# Altium footprint library CUBIC_FC.PcbLib: 16 footprints
Each footprint in its own frame and in the unit in brackets; x right, y up, seen from the top. Pads: shape width x height; smd on the part's side, far side on the other; paste and mask are expansions set on the pad; w line width, h text height; cw(c..) or ccw(c..) is an arc to the next point about the centre after c.
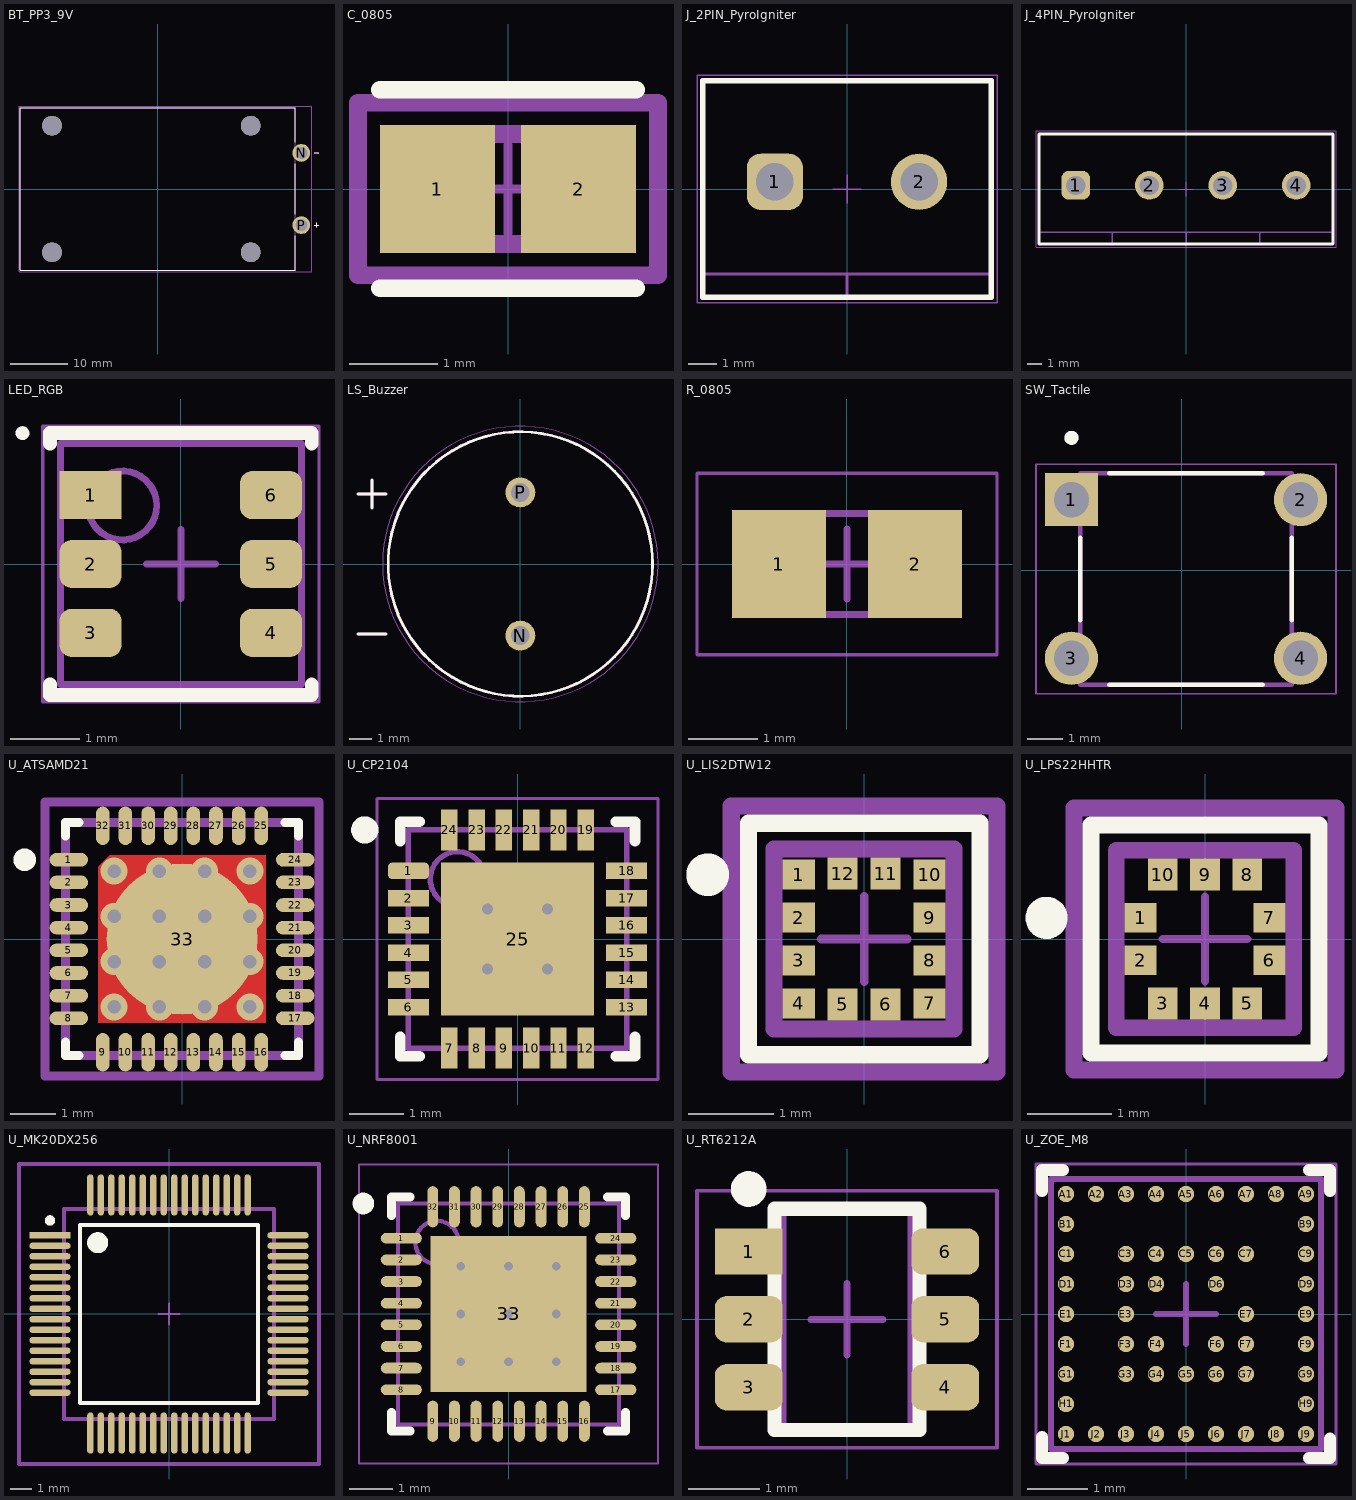
[diagram p0: the footprints below, top view; thin cyan lines are the x and y axes]

## BT_PP3_9V [mm]
height 18.23
pads (6):
  round 3.126 hole 2.11: N(25.23,6.35) P(25.23,-6.35)
  round 3.45 hole 3.45 unplated: ""(-18.59,-11.115) ""(-18.59,11.115) ""(16.34,-11.115) ""(16.34,11.115)
Top Overlay:
  lines w0.127: 24.13,-8.233 24.13,-14.29 -24.13,-14.29 -24.13,14.29 24.13,14.29 24.13,8.233 ; 24.13,-4.467 24.13,4.467 ; 27.54,-6.35 28.34,-6.35 ; 27.54,6.35 28.34,6.35 ; 27.94,-6.75 27.94,-5.95
Mechanical 13:
  lines w0.127: 27.54,-6.35 28.34,-6.35 ; 27.54,6.35 28.34,6.35 ; 27.94,-6.75 27.94,-5.95 ; -24.13,-14.29 -24.13,14.29 24.13,14.29 24.13,-14.29 -24.13,-14.29
Mechanical 15:
  lines w0.05: -24.38,-14.54 27.043,-14.54 27.043,14.54 -24.38,14.54 -24.38,-14.54
3D body "1291-79.step": height 20.46, standoff -9.62, extent -24.13,-14.3 25.629,14.275

## C_0805 [mm] "Murata Electronics 0805 MLCC Capacitor"
pads (2):
  rect 1.305x1.456 smd paste+0 mask+0: 1(-0.801,0) 2(0.801,0)
Top Overlay:
  lines w0.2: -1.453,-1.128 1.453,-1.128 ; -1.453,1.128 1.453,1.128
Top 3D Body:
  lines w0.2: -1,-0.625 -1,0.625 1,0.625 1,-0.625 -1,-0.625
Top Courtyard:
  lines w0.2: -1.703,-0.978 -1.703,0.978 1.703,0.978 1.703,-0.978 -1.703,-0.978
Top Assembly:
  lines w0.2: -1.703,-0.978 -1.703,0.978 1.703,0.978 1.703,-0.978 -1.703,-0.978
  text ".Designator" at 0,0.188 h1
Top Component Center:
  lines w0.1: -0.5,0 0.5,0 ; 0,-0.5 0,0.5
3D body "Cap_Murata_GRM21A5C2E390JW01D_eec.STEP": height 0.25, standoff 0, extent -1.703,-0.978 1.703,0.978

## J_2PIN_PyroIgniter [mm] "Horizontal Cable Entry with Pressure Clamp, pitch 5mm, 02p"
height 11.5
pads (2):
  rrect50% 1.95x1.95 hole 1.3: 1(-2.5,0.25)
  round 1.95 hole 1.3: 2(2.5,0.25)
Top Overlay:
  lines w0.2: -5,-3.75 5,-3.75 5,3.75 -5,3.75 -5,-3.75
Top 3D Body:
  lines w0.1: -5,-2.95 5,-2.95 ; 0,-3.75 0,-2.95 ; -5,-3.75 5,-3.75 5,3.75 -5,3.75 -5,-3.75
Top Courtyard:
  lines w0.05: -5.2,-3.95 5.2,-3.95 5.2,3.95 -5.2,3.95 -5.2,-3.95
Top Assembly:
  text ".Designator" at -7.498,-0.5 h1.5
Top Component Outline:
  lines w0.1: -5,-2.95 5,-2.95 ; 0,-3.75 0,-2.95 ; -5,-3.75 -5,3.75 5,3.75 5,-3.75 -5,-3.75
Top Component Center:
  lines w0.05: -0.5,0 0.5,0 ; 0,-0.5 0,0.5
3D body "691137710002.stp": height 11.6, standoff -3.5, extent -5,-3.75 5,3.75

## J_4PIN_PyroIgniter [mm] "Horizontal Cable Entry with Pressure Clamp, pitch 5mm, 04p"
height 11.5
pads (4):
  rrect50% 1.95x1.95 hole 1.3: 1(-7.5,0.25)
  round 1.95 hole 1.3: 2(-2.5,0.25) 3(2.5,0.25) 4(7.5,0.25)
Top Overlay:
  lines w0.2: -10,-3.75 -10,3.75 10,3.75 10,-3.75 -10,-3.75
Top 3D Body:
  lines w0.1: -10,-2.95 10,-2.95 ; -5,-3.75 -5,-2.95 ; 0,-3.75 0,-2.95 ; 5,-3.75 5,-2.95 ; -10,-3.75 -10,3.75 10,3.75 10,-3.75 -10,-3.75
Top Courtyard:
  lines w0.05: -10.2,-3.95 -10.2,3.95 10.2,3.95 10.2,-3.95 -10.2,-3.95
Top Designator:
  text ".Designator" at -7.498,-0.5 h1.5
Top Component Outline:
  lines w0.1: -10,-2.95 10,-2.95 ; -5,-3.75 -5,-2.95 ; 0,-3.75 0,-2.95 ; 5,-3.75 5,-2.95 ; -10,-3.75 10,-3.75 10,3.75 -10,3.75 -10,-3.75
Top Component Center:
  lines w0.05: -0.5,0 0.5,0 ; 0,-0.5 0,0.5
3D body "691137710004.stp": height 11.6, standoff -3.5, extent -10,-3.75 10,3.75

## LED_RGB [mm] "PSON, 6-Leads, Body 3.40x3.40mm, Pitch 1.00mm, IPC Medium Density"
height 2.9
pads (6):
  rect 0.9x0.7 smd: 1(-1.31,1)
  rrect50% 0.9x0.7 smd: 2(-1.31,0) 3(-1.31,-1) 4(1.31,-1) 5(1.31,0) 6(1.31,1)
Top Overlay:
  circle w0.1: c-2.3,1.9 r0.05
  lines w0.2: -1.9,-1.75 -1.9,-1.9 1.9,-1.9 1.9,-1.75 ; -1.9,1.75 -1.9,1.9 1.9,1.9 1.9,1.75
Top Courtyard:
  lines w0.05: -2.005,-2 -2.005,2 2.005,2 2.005,-2 -2.005,-2
  lines w0.1: -0.5,0 0.5,0 ; 0,-0.5 0,0.5
Top Assembly:
  circle w0.1: c-0.85,0.85 r0.5
  lines w0.1: -1.75,-1.75 -1.75,1.75 1.75,1.75 1.75,-1.75 -1.75,-1.75
3D body "PLCC6_3_4X3_4_CRW.step": height 1.7, standoff 0, extent -1.803,-1.753 1.803,1.753

## LS_Buzzer [mm]
height 5.5
pads (2):
  round 1.358 hole 0.85: N(0,-3.25) P(0,3.25)
Top Overlay:
  circle w0.127: c0,0 r6
  lines w0.127: -7.366,-3.175 -6.096,-3.175 ; -7.366,3.175 -6.096,3.175 ; -6.731,2.54 -6.731,3.81
Mechanical 13:
  circle w0.127: c0,0 r6
  lines w0.127: -7.366,-3.175 -6.096,-3.175 ; -7.366,3.175 -6.096,3.175 ; -6.731,2.54 -6.731,3.81
Mechanical 15:
  circle w0.05: c0,0 r6.25
3D body "AT-1224-TWT-R.step": height 9.08, standoff -3.97, extent -5.997,-8.732 5.997,6.006

## R_0805 [mm] "Chip Resistor, 2-Leads, Body 2.00x1.25mm, IPC Low Density"
height 0.7
pads (2):
  rect 1.35x1.55 smd: 1(-0.975,0) 2(0.975,0)
Mechanical 13:
  lines w0.1: -1.1,-0.725 -1.1,0.725 1.1,0.725 1.1,-0.725 -1.1,-0.725
Mechanical 15:
  lines w0.05: -2.15,-1.3 -2.15,1.3 2.15,1.3 2.15,-1.3 -2.15,-1.3
  lines w0.1: -0.5,0 0.5,0 ; 0,-0.5 0,0.5
3D body: height 0.7, standoff 0, extent -0.7,-0.725 0.7,0.725
3D body: height 0.7, standoff 0, extent -1.1,-0.725 -0.7,0.725
3D body: height 0.7, standoff 0, extent 0.7,-0.725 1.1,0.725

## SW_Tactile [mm] "Tactile, 4-pin pushbutton w/ through hole leads"
pads (4):
  rect 1.508x1.508 / inner round 1.508 / far side rect 1.508x1.508 hole 1: 1(-3.123,1.996)
  round 1.508 hole 1: 2(3.377,1.996) 3(-3.123,-2.504) 4(3.377,-2.504)
Top Overlay:
  circle w0.2: c-3.123,3.75 r0.1
  lines w0.127: -2.873,-1.43 -2.873,0.922 ; -2.049,-3.254 2.303,-3.254 ; -2.049,2.746 2.303,2.746 ; 3.127,-1.43 3.127,0.922
Mechanical 13:
  circle w0.2: c-3.123,3.75 r0.1
  lines w0.127: -2.873,-3.254 3.127,-3.254 3.127,2.746 -2.873,2.746 -2.873,-3.254
  text ".Designator" at -2.286,-1.778 h1.52
Mechanical 15:
  lines w0.05: -4.127,-3.508 -4.127,3 4.381,3 4.381,-3.508 -4.127,-3.508

## U_ATSAMD21 [mm] "32-pin QFN"
pads (33):
  rrect100% 0.85x0.3 smd paste+0 mask+0: 1(-2.5,1.75) 2(-2.5,1.25) 3(-2.5,0.75) 4(-2.5,0.25) 5(-2.5,-0.25) 6(-2.5,-0.75) 7(-2.5,-1.25) 8(-2.5,-1.75) 17(2.5,-1.75) 18(2.5,-1.25) 19(2.5,-0.75) 20(2.5,-0.25) 21(2.5,0.25) 22(2.5,0.75) 23(2.5,1.25) 24(2.5,1.75)
  rrect100% 0.3x0.85 smd paste+0 mask+0: 9(-1.75,-2.5) 10(-1.25,-2.5) 11(-0.75,-2.5) 12(-0.25,-2.5) 13(0.25,-2.5) 14(0.75,-2.5) 15(1.25,-2.5) 16(1.75,-2.5) 25(1.75,2.5) 26(1.25,2.5) 27(0.75,2.5) 28(0.25,2.5) 29(-0.25,2.5) 30(-0.75,2.5) 31(-1.25,2.5) 32(-1.75,2.5)
  round 3.33 smd paste+0 mask+0: 33(0,0)
via -0.5,1.5 diameter 0.6 hole 0.3
via -0.5,0.5 diameter 0.6 hole 0.3
via -0.5,-0.5 diameter 0.6 hole 0.3
via -0.5,-1.5 diameter 0.6 hole 0.3
via 0.5,-1.5 diameter 0.6 hole 0.3
via 0.5,-0.5 diameter 0.6 hole 0.3
via 0.5,0.5 diameter 0.6 hole 0.3
via 0.5,1.5 diameter 0.6 hole 0.3
via 1.5,-1.5 diameter 0.6 hole 0.3
via 1.5,-0.5 diameter 0.6 hole 0.3
via 1.5,0.5 diameter 0.6 hole 0.3
via 1.5,1.5 diameter 0.6 hole 0.3
via -1.5,-1.5 diameter 0.6 hole 0.3
via -1.5,-0.5 diameter 0.6 hole 0.3
via -1.5,0.5 diameter 0.6 hole 0.3
via -1.5,1.5 diameter 0.6 hole 0.3
Top Layer:
  region: -1.85,-1.85 1.85,-1.85 1.85,1.85 -1.6,1.85 -1.85,1.6
Top Overlay:
  circle w0.25: c-3.475,1.75 r0.125
  lines w0.2: -2.575,-2.275 -2.575,-2.575 -2.275,-2.575 ; -2.575,2.275 -2.575,2.575 -2.275,2.575 ; 2.275,-2.575 2.575,-2.575 2.575,-2.275 ; 2.275,2.575 2.575,2.575 2.575,2.275
Top 3D Body:
  lines w0.2: -2.575,-2.575 -2.575,2.575 2.575,2.575 2.575,-2.575 -2.575,-2.575
Top Courtyard:
  lines w0.2: -3.025,-3.025 -3.025,3.025 3.025,3.025 3.025,-3.025 -3.025,-3.025
Top Assembly:
  lines w0.2: -3.025,-3.025 -3.025,3.025 3.025,3.025 3.025,-3.025 -3.025,-3.025
  text ".Designator" at 0,0.188 h1
Top Component Center:
  lines w0.1: -0.5,0 0.5,0 ; 0,-0.5 0,0.5
3D body "IC_Microchip_ATSAMC21E18A-MUT_eec.STEP": height 0.25, standoff 0, extent -3.025,-3.025 3.025,3.025

## U_CP2104 [mm] "QFN, 24-Leads, Body 4.00x4.00mm, Pitch 0.50mm, Thermal Pad 2.80x2.80mm, IPC Medium Density"
height 0.8
pads (25):
  rrect50% 0.75x0.3 smd: 1(-2,1.25)
  rect 0.75x0.3 smd: 2(-2,0.75) 3(-2,0.25) 4(-2,-0.25) 5(-2,-0.75) 6(-2,-1.25) 13(2,-1.25) 14(2,-0.75) 15(2,-0.25) 16(2,0.25) 17(2,0.75) 18(2,1.25)
  rect 0.3x0.75 smd: 7(-1.25,-2) 8(-0.75,-2) 9(-0.25,-2) 10(0.25,-2) 11(0.75,-2) 12(1.25,-2) 19(1.25,2) 20(0.75,2) 21(0.25,2) 22(-0.25,2) 23(-0.75,2) 24(-1.25,2)
  rect 2.8x2.8 smd: 25(0,0)
via 0.55,-0.55 diameter 0.5 hole 0.2
via -0.55,-0.55 diameter 0.5 hole 0.2
via 0.55,0.55 diameter 0.5 hole 0.2
via -0.55,0.55 diameter 0.5 hole 0.2
Top Overlay:
  circle w0.25: c-2.8,2 r0.125
  lines w0.2: -2.15,-1.8 -2.15,-2.15 -1.8,-2.15 ; -2.15,1.8 -2.15,2.15 -1.8,2.15 ; 1.8,-2.15 2.15,-2.15 2.15,-1.8 ; 1.8,2.15 2.15,2.15 2.15,1.8
Mechanical 1:
  text ".Designator" at -1.753,-1.795 h1.02
Mechanical 13:
  circle w0.1: c-1.1,1.1 r0.5
  lines w0.1: -2,-2 -2,2 2,2 2,-2 -2,-2
Mechanical 15:
  lines w0.05: -2.575,-2.575 2.575,-2.575 2.575,2.575 -2.575,2.575 -2.575,-2.575
  lines w0.1: -0.5,0 0.5,0 ; 0,-0.5 0,0.5
3D body "U_CP2104.step": height 0.8, standoff 0, extent -2.001,-2.001 2.001,2.001

## U_LIS2DTW12 [mm] "12-pin WFLGA"
pads (12):
  rect 0.375x0.35 smd paste-1000 mask+0: 1(-0.763,0.75) 2(-0.763,0.25) 3(-0.763,-0.25) 4(-0.763,-0.75) 7(0.763,-0.75) 8(0.763,-0.25) 9(0.763,0.25) 10(0.763,0.75)
  rect 0.35x0.375 smd paste-1000 mask+0: 5(-0.25,-0.763) 6(0.25,-0.763) 11(0.25,0.763) 12(-0.25,0.763)
Top Overlay:
  circle w0.25: c-1.825,0.75 r0.125
  lines w0.2: -1.35,-1.35 -1.35,1.35 1.35,1.35 1.35,-1.35 -1.35,-1.35
Top Paste:
  rectangle: -0.93,0.093 -0.595,0.407
  rectangle: 0.595,0.093 0.93,0.407
  rectangle: -0.93,0.593 -0.595,0.907
  rectangle: 0.595,0.593 0.93,0.907
  rectangle: 0.093,0.595 0.407,0.93
  rectangle: -0.407,0.595 -0.093,0.93
  rectangle: -0.93,-0.907 -0.595,-0.593
  rectangle: -0.93,-0.407 -0.595,-0.093
  rectangle: 0.595,-0.407 0.93,-0.093
  rectangle: 0.595,-0.907 0.93,-0.593
  rectangle: 0.093,-0.93 0.407,-0.595
  rectangle: -0.407,-0.93 -0.093,-0.595
Top 3D Body:
  lines w0.2: -1.05,-1.05 -1.05,1.05 1.05,1.05 1.05,-1.05 -1.05,-1.05
Top Courtyard:
  lines w0.2: -1.55,-1.55 -1.55,1.55 1.55,1.55 1.55,-1.55 -1.55,-1.55
Top Assembly:
  lines w0.2: -1.55,-1.55 -1.55,1.55 1.55,1.55 1.55,-1.55 -1.55,-1.55
  text ".Designator" at 0,0.188 h1
Top Component Center:
  lines w0.1: -0.5,0 0.5,0 ; 0,-0.5 0,0.5
3D body "IC_STMicroelectronics_IIS2MDCTR_eec.STEP": height 0.25, standoff 0, extent -1.55,-1.55 1.55,1.55

## U_LPS22HHTR [mm] "10-pin WFLGA 2.0x2.0mm"
pads (10):
  rect 0.375x0.35 smd paste+0 mask+0: 1(-0.763,0.25) 2(-0.763,-0.25) 6(0.763,-0.25) 7(0.763,0.25)
  rect 0.35x0.375 smd paste+0 mask+0: 3(-0.5,-0.763) 4(0,-0.763) 5(0.5,-0.763) 8(0.5,0.763) 9(0,0.763) 10(-0.5,0.763)
Top Overlay:
  circle w0.25: c-1.875,0.25 r0.125
  lines w0.2: -1.35,-1.35 -1.35,1.35 1.35,1.35 1.35,-1.35 -1.35,-1.35
Top 3D Body:
  lines w0.2: -1.05,-1.05 -1.05,1.05 1.05,1.05 1.05,-1.05 -1.05,-1.05
Top Courtyard:
  lines w0.2: -1.55,-1.55 -1.55,1.55 1.55,1.55 1.55,-1.55 -1.55,-1.55
Top Assembly:
  lines w0.2: -1.55,-1.55 -1.55,1.55 1.55,1.55 1.55,-1.55 -1.55,-1.55
  text ".Designator" at 0,0.188 h1
Top Component Center:
  lines w0.1: -0.5,0 0.5,0 ; 0,-0.5 0,0.5
3D body "IC_STMicroelectronics_LPS22HHTR_eec.STEP": height 0.25, standoff 0, extent -1.55,-1.55 1.55,1.55

## U_MK20DX256 [mm] "64-pin LQFP"
pads (64):
  rect 1.955x0.312 smd paste+0 mask+0.045: 1(-5.675,3.75)
  rrect100% 1.955x0.312 smd paste+0 mask+0.045: 2(-5.675,3.25) 3(-5.675,2.75) 4(-5.675,2.25) 5(-5.675,1.75) 6(-5.675,1.25) 7(-5.675,0.75) 8(-5.675,0.25) 9(-5.675,-0.25) 10(-5.675,-0.75) 11(-5.675,-1.25) 12(-5.675,-1.75) 13(-5.675,-2.25) 14(-5.675,-2.75) 15(-5.675,-3.25) 16(-5.675,-3.75) 33(5.675,-3.75) 34(5.675,-3.25) 35(5.675,-2.75) 36(5.675,-2.25) 37(5.675,-1.75) 38(5.675,-1.25) 39(5.675,-0.75) 40(5.675,-0.25) 41(5.675,0.25) 42(5.675,0.75) 43(5.675,1.25) 44(5.675,1.75) 45(5.675,2.25) 46(5.675,2.75) 47(5.675,3.25) 48(5.675,3.75)
  rrect100% 0.312x1.955 smd paste+0 mask+0.045: 17(-3.75,-5.675) 18(-3.25,-5.675) 19(-2.75,-5.675) 20(-2.25,-5.675) 21(-1.75,-5.675) 22(-1.25,-5.675) 23(-0.75,-5.675) 24(-0.25,-5.675) 25(0.25,-5.675) 26(0.75,-5.675) 27(1.25,-5.675) 28(1.75,-5.675) 29(2.25,-5.675) 30(2.75,-5.675) 31(3.25,-5.675) 32(3.75,-5.675) 49(3.75,5.675) 50(3.25,5.675) 51(2.75,5.675) 52(2.25,5.675) 53(1.75,5.675) 54(1.25,5.675) 55(0.75,5.675) 56(0.25,5.675) 57(-0.25,5.675) 58(-0.75,5.675) 59(-1.25,5.675) 60(-1.75,5.675) 61(-2.25,5.675) 62(-2.75,5.675) 63(-3.25,5.675) 64(-3.75,5.675)
Top Overlay:
  circle w0.25: c-5.675,4.46 r0.125
  circle w0.5: c-3.4,3.4 r0.25
  lines w0.2: -4.25,-4.25 4.25,-4.25 4.25,4.25 -4.25,4.25 -4.25,-4.25
Top 3D Body:
  lines w0.2: -5,-5 5,-5 5,5 -5,5 -5,-5
Top Courtyard:
  lines w0.2: -7.153,-7.153 7.153,-7.153 7.153,7.153 -7.153,7.153 -7.153,-7.153
Top Assembly:
  lines w0.2: -7.153,-7.153 7.153,-7.153 7.153,7.153 -7.153,7.153 -7.153,-7.153
  text ".Designator" at 0,0 h1
Top Component Center:
  lines w0.1: -0.5,0 0.5,0 ; 0,-0.5 0,0.5
3D body "IC_NXP_K32L2B21VLH0A_eec.STEP": height 0.25, standoff 0, extent -7.153,-7.153 7.153,7.153

## U_NRF8001 [mm] "32-Leads, Body 5.1x5.1mm, Pitch 0.50mm, Thermal Pad 3.6x3.6mm, IPC Low Density"
height 0.9
pads (33):
  oval 0.95x0.25 smd: 1(-2.475,1.75) 2(-2.475,1.25) 3(-2.475,0.75) 4(-2.475,0.25) 5(-2.475,-0.25) 6(-2.475,-0.75) 7(-2.475,-1.25) 8(-2.475,-1.75) 17(2.475,-1.75) 18(2.475,-1.25) 19(2.475,-0.75) 20(2.475,-0.25) 21(2.475,0.25) 22(2.475,0.75) 23(2.475,1.25) 24(2.475,1.75)
  oval 0.25x0.95 smd: 9(-1.75,-2.475) 10(-1.25,-2.475) 11(-0.75,-2.475) 12(-0.25,-2.475) 13(0.25,-2.475) 14(0.75,-2.475) 15(1.25,-2.475) 16(1.75,-2.475) 25(1.75,2.475) 26(1.25,2.475) 27(0.75,2.475) 28(0.25,2.475) 29(-0.25,2.475) 30(-0.75,2.475) 31(-1.25,2.475) 32(-1.75,2.475)
  rect 3.6x3.6 smd: 33(0,0)
via -1.1,1.1 diameter 0.5 hole 0.2
via 0,1.1 diameter 0.5 hole 0.2
via 1.1,1.1 diameter 0.5 hole 0.2
via -1.1,0 diameter 0.5 hole 0.2
via 0,0 diameter 0.5 hole 0.2
via 1.1,0 diameter 0.5 hole 0.2
via -1.1,-1.1 diameter 0.5 hole 0.2
via 0,-1.1 diameter 0.5 hole 0.2
via 1.1,-1.1 diameter 0.5 hole 0.2
Top Overlay:
  circle w0.25: c-3.35,2.55 r0.125
  lines w0.2: -2.7,-2.275 -2.7,-2.7 -2.275,-2.7 ; -2.7,2.275 -2.7,2.7 -2.275,2.7 ; 2.275,-2.7 2.7,-2.7 2.7,-2.275 ; 2.275,2.7 2.7,2.7 2.7,2.275
Mechanical 13:
  circle w0.1: c-1.65,1.65 r0.5
  lines w0.1: -2.55,-2.55 -2.55,2.55 2.55,2.55 2.55,-2.55 -2.55,-2.55
Mechanical 15:
  lines w0.05: -3.45,-3.45 -3.45,3.45 3.45,3.45 3.45,-3.45 -3.45,-3.45
  lines w0.1: -0.5,0 0.5,0 ; 0,-0.5 0,0.5
3D body: height 0.9, standoff 0, extent -2.55,-2.55 2.55,2.55

## U_RT6212A [mm] "SOT23, 6-Leads, Body 2.90x2.80mm, Pitch 0.95mm, IPC Medium Density"
height 1
pads (6):
  rect 0.95x0.65 smd: 1(-1.375,0.95)
  rrect50% 0.95x0.65 smd: 2(-1.375,0) 3(-1.375,-0.95) 4(1.375,-0.95) 5(1.375,0) 6(1.375,0.95)
Top Overlay:
  circle w0.25: c-1.375,1.825 r0.125
  lines w0.2: -1.016,-1.55 -1.016,1.55 1.016,1.55 1.016,-1.55 -1.016,-1.55
Top Courtyard:
  lines w0.05: -2.1,-1.8 -2.1,1.8 2.1,1.8 2.1,-1.8 -2.1,-1.8
  lines w0.1: -0.5,0 0.5,0 ; 0,-0.5 0,0.5
Top Assembly:
  lines w0.1: -0.9,-1.55 -0.9,1.55 0.9,1.55 0.9,-1.55 -0.9,-1.55
3D body "TSOT-23-6_FC__RIT.step": height 0.99, standoff 0, extent -1.499,-1.549 1.499,1.549

## U_ZOE_M8 [mm] "LGA, 51-Leads, Body 4.50x4.50mmx1.10mm, Pitch 0.50mm"
height 1.1
pads (51):
  round 0.27 smd mask+0.08: A1(-2,2) A2(-1.5,2) A3(-1,2) A4(-0.5,2) A5(0,2) A6(0.5,2) A7(1,2) A8(1.5,2) A9(2,2) B1(-2,1.5) B9(2,1.5) C1(-2,1) C3(-1,1) C4(-0.5,1) C5(0,1) C6(0.5,1) C7(1,1) C9(2,1) D1(-2,0.5) D3(-1,0.5) D4(-0.5,0.5) D6(0.5,0.5) D9(2,0.5) E1(-2,0) E3(-1,0) E7(1,0) E9(2,0) F1(-2,-0.5) F3(-1,-0.5) F4(-0.5,-0.5) F6(0.5,-0.5) F7(1,-0.5) F9(2,-0.5) G1(-2,-1) G3(-1,-1) G4(-0.5,-1) G5(0,-1) G6(0.5,-1) G7(1,-1) G9(2,-1) H1(-2,-1.5) H9(2,-1.5) J1(-2,-2) J2(-1.5,-2) J3(-1,-2) J4(-0.5,-2) J5(0,-2) J6(0.5,-2) J7(1,-2) J8(1.5,-2) J9(2,-2)
Top Overlay:
  lines w0.2: -2.4,-2.05 -2.4,-2.4 -2.05,-2.4 ; -2.4,2.05 -2.4,2.4 -2.05,2.4 ; 2.05,-2.4 2.4,-2.4 2.4,-2.075 ; 2.05,2.4 2.4,2.4 2.4,2.05
Mechanical 1:
  text ".Designator" at -1.898,-1.609 h1.02
Mechanical 13:
  lines w0.1: -2.25,-2.25 2.25,-2.25 2.25,2.25 -2.25,2.25 -2.25,-2.25
Mechanical 15:
  lines w0.05: -2.5,-2.5 -2.5,2.5 2.5,2.5 2.5,-2.5 -2.5,-2.5
  lines w0.1: -0.5,0 0.5,0 ; 0,-0.5 0,0.5
3D body "BGA_E-M8Q-0_UBL.step": height 1.09, standoff -0.38, extent -2.248,-2.248 2.248,2.248